# Altium footprint library SIP7.PcbLib: 1 footprints
Each footprint in its own frame and in the unit in brackets; x right, y up, seen from the top. Pads: shape width x height; smd on the part's side, far side on the other; paste and mask are expansions set on the pad; w line width, h text height; cw(c..) or ccw(c..) is an arc to the next point about the centre after c.
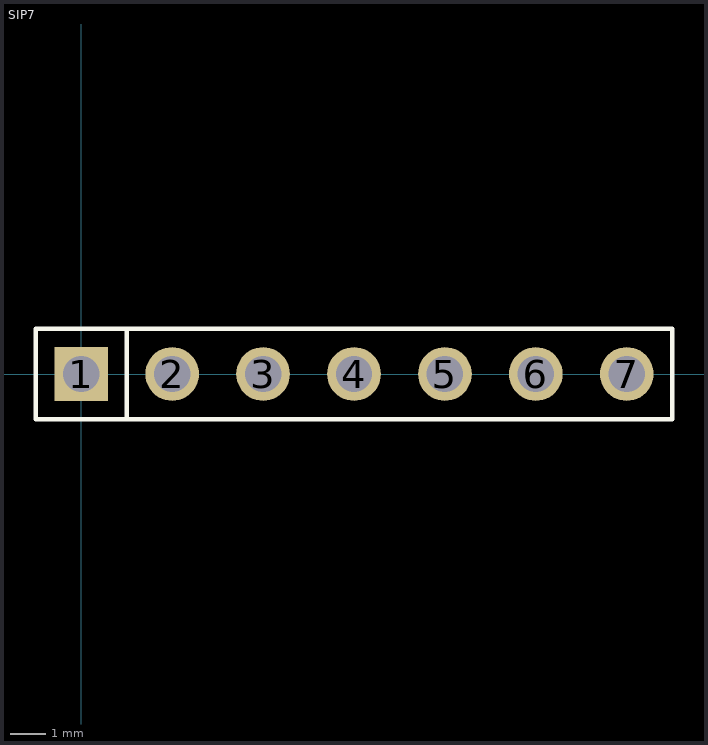
[diagram p0: the footprint, top view; thin cyan lines are the x and y axes]

## SIP7 [mm]
pads (7):
  rect 1.5x1.5 hole 1.016: 1(0,0)
  round 1.5 hole 1.016: 2(2.54,0) 3(5.08,0) 4(7.62,0) 5(10.16,0) 6(12.7,0) 7(15.24,0)
Top Overlay:
  lines w0.127: 1.27,-1.27 1.27,1.27 ; -1.27,-1.27 -1.27,1.27 16.51,1.27 16.51,-1.27 -1.27,-1.27
  text "." at -2.201,0 h0.64
3D body: height 8.38, standoff -2.54, extent -1.27,-1.27 8.89,1.27
3D body: height 8.38, standoff -2.54, extent 6.35,-1.27 16.51,1.27